# Altium integrated library Components - 25.08.25 - 13.49.IntLib: 1 symbol
Pins are listed as number, name and electrical type; pins without a type are passive.

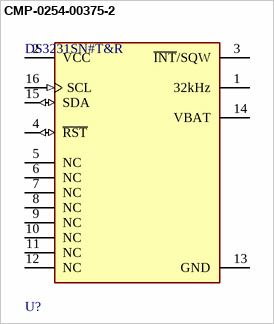
[diagram p0: symbol CMP-0254-00375-2]

## CMP-0254-00375-2
designator U?, comment DS3231SN#T&R
IC RTC CLK/CALENDAR I2C 16-SOIC; Operating Supply Voltage: 3.3V; Max Supply Voltage: 5.5V; Logic Function: Clock; Time Format: HH:MM:SS; Date Format: YY-MM-DD-dd; Min Supply Voltage: 2.3V; Min Operating Temperature: -40°C; Packaging: Tape and Reel; Radiation Hardening: No; Package Quantity: 1000; Case/Package: SOIC; Max Operating Temperature: 85°C; Lead Free: Lead Free; Interface: I2C; Contact Plating: Tin; Number of Pins: 16; Mount: Surface Mount
footprint FP-W16-H2-MFG
footprint FP-W16-H2-IPC_A
footprint FP-W16-H2-IPC_B
footprint FP-W16-H2-IPC_C
pins: 1 32kHz (oc), 2 VCC (power), 3 ~{INT}/SQW (oc), 4 ~{RST} (io), 5 NC, 6 NC, 7 NC, 8 NC, 9 NC, 10 NC, 11 NC, 12 NC, 13 GND (power), 14 VBAT (power), 15 SDA (io), 16 SCL (in)